# EAGLE library part 4010XLP160 (library XILINX)
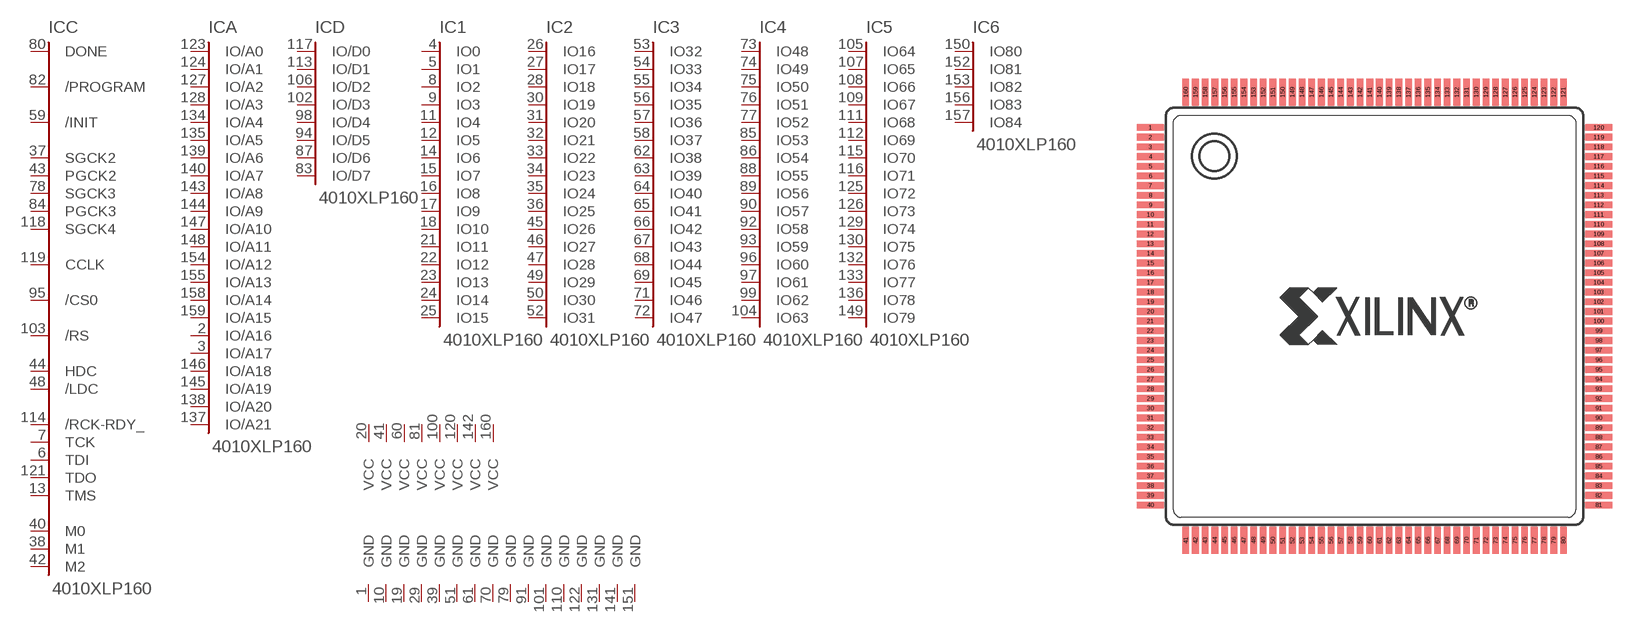
[diagram p33: symbol with the pads of PQ160; footprint PQ160]

Designator prefix IC; gates C=4003-C84 A=XC4-A D=XC4-D 1=XC4-IO16 2=XC4-IO32 3=XC4-IO48 4=XC4-IO64 5=XC4-IO80 V1=VCC V2=VCC V3=VCC V4=VCC V5=VCC V6=VCC V7=VCC V8=VCC G1=GND G2=GND G3=GND G4=GND G5=GND G6=GND G7=GND G8=GND G9=GND G10=GND G11=GND G12=GND G13=GND G14=GND G15=GND G16=GND 6=XC4-IO84

## 4010XLP160  [PQ160]
1  G1:GND  pwr
2  A:IO/A16
3  A:IO/A17
4  1:IO0
5  1:IO1
6  C:TDI
7  C:TCK
8  1:IO2
9  1:IO3
10  G2:GND  pwr
11  1:IO4
12  1:IO5
13  C:TMS
14  1:IO6
15  1:IO7
16  1:IO8
17  1:IO9
18  1:IO10
19  G3:GND  pwr
20  V1:VCC  pwr
21  1:IO11
22  1:IO12
23  1:IO13
24  1:IO14
25  1:IO15
26  2:IO16
27  2:IO17
28  2:IO18
29  G4:GND  pwr
30  2:IO19
31  2:IO20
32  2:IO21
33  2:IO22
34  2:IO23
35  2:IO24
36  2:IO25
37  C:SGCK2
38  C:M1  out
39  G5:GND  pwr
40  C:M0  in
41  V2:VCC  pwr
42  C:M2  in
43  C:PGCK2
44  C:HDC
45  2:IO26
46  2:IO27
47  2:IO28
48  C:/LDC
49  2:IO29
50  2:IO30
51  G6:GND  pwr
52  2:IO31
53  3:IO32
54  3:IO33
55  3:IO34
56  3:IO35
57  3:IO36
58  3:IO37
59  C:/INIT
60  V3:VCC  pwr
61  G7:GND  pwr
62  3:IO38
63  3:IO39
64  3:IO40
65  3:IO41
66  3:IO42
67  3:IO43
68  3:IO44
69  3:IO45
70  G8:GND  pwr
71  3:IO46
72  3:IO47
73  4:IO48
74  4:IO49
75  4:IO50
76  4:IO51
77  4:IO52
78  C:SGCK3
79  G9:GND  pwr
80  C:DONE
81  V4:VCC  pwr
82  C:/PROGRAM
83  D:IO/D7
84  C:PGCK3
85  4:IO53
86  4:IO54
87  D:IO/D6
88  4:IO55
89  4:IO56
90  4:IO57
91  G10:GND  pwr
92  4:IO58
93  4:IO59
94  D:IO/D5
95  C:/CS0
96  4:IO60
97  4:IO61
98  D:IO/D4
99  4:IO62
100  V5:VCC  pwr
101  G11:GND  pwr
102  D:IO/D3
103  C:/RS
104  4:IO63
105  5:IO64
106  D:IO/D2
107  5:IO65
108  5:IO66
109  5:IO67
110  G12:GND  pwr
111  5:IO68
112  5:IO69
113  D:IO/D1
114  C:/RCK-RDY_
115  5:IO70
116  5:IO71
117  D:IO/D0
118  C:SGCK4
119  C:CCLK
120  V6:VCC  pwr
121  C:TDO
122  G13:GND  pwr
123  A:IO/A0
124  A:IO/A1
125  5:IO72
126  5:IO73
127  A:IO/A2
128  A:IO/A3
129  5:IO74
130  5:IO75
131  G14:GND  pwr
132  5:IO76
133  5:IO77
134  A:IO/A4
135  A:IO/A5
136  5:IO78
137  A:IO/A21
138  A:IO/A20
139  A:IO/A6
140  A:IO/A7
141  G15:GND  pwr
142  V7:VCC  pwr
143  A:IO/A8
144  A:IO/A9
145  A:IO/A19
146  A:IO/A18
147  A:IO/A10
148  A:IO/A11
149  5:IO79
150  6:IO80
151  G16:GND  pwr
152  6:IO81
153  6:IO82
154  A:IO/A12
155  A:IO/A13
156  6:IO83
157  6:IO84
158  A:IO/A14
159  A:IO/A15
160  V8:VCC  pwr

## Footprint PQ160 (pad centres in mm)
smd 1.8 x 0.45: 1 -15.05,12.675; 2 -15.05,12.025; 3 -15.05,11.375; 4 -15.05,10.725; 5 -15.05,10.075; 6 -15.05,9.425; 7 -15.05,8.775; 8 -15.05,8.125; 9 -15.05,7.475; 10 -15.05,6.825; 11 -15.05,6.175; 12 -15.05,5.525; 13 -15.05,4.875; 14 -15.05,4.225; 15 -15.05,3.575; 16 -15.05,2.925; 17 -15.05,2.275; 18 -15.05,1.625; 19 -15.05,0.975; 20 -15.05,0.325; 21 -15.05,-0.325; 22 -15.05,-0.975; 23 -15.05,-1.625; 24 -15.05,-2.275; 25 -15.05,-2.925; 26 -15.05,-3.575; 27 -15.05,-4.225; 28 -15.05,-4.875; 29 -15.05,-5.525; 30 -15.05,-6.175; 31 -15.05,-6.825; 32 -15.05,-7.475; 33 -15.05,-8.125; 34 -15.05,-8.775; 35 -15.05,-9.425; 36 -15.05,-10.075; 37 -15.05,-10.725; 38 -15.05,-11.375; 39 -15.05,-12.025; 40 -15.05,-12.675; 81 15.05,-12.675; 82 15.05,-12.025; 83 15.05,-11.375; 84 15.05,-10.725; 85 15.05,-10.075; 86 15.05,-9.425; 87 15.05,-8.775; 88 15.05,-8.125; 89 15.05,-7.475; 90 15.05,-6.825; 91 15.05,-6.175; 92 15.05,-5.525; 93 15.05,-4.875; 94 15.05,-4.225; 95 15.05,-3.575; 96 15.05,-2.925; 97 15.05,-2.275; 98 15.05,-1.625; 99 15.05,-0.975; 100 15.05,-0.325; 101 15.05,0.325; 102 15.05,0.975; 103 15.05,1.625; 104 15.05,2.275; 105 15.05,2.925; 106 15.05,3.575; 107 15.05,4.225; 108 15.05,4.875; 109 15.05,5.525; 110 15.05,6.175; 111 15.05,6.825; 112 15.05,7.475; 113 15.05,8.125; 114 15.05,8.775; 115 15.05,9.425; 116 15.05,10.075; 117 15.05,10.725; 118 15.05,11.375; 119 15.05,12.025; 120 15.05,12.675
smd 0.45 x 1.8: 41 -12.675,-15.05; 42 -12.025,-15.05; 43 -11.375,-15.05; 44 -10.725,-15.05; 45 -10.075,-15.05; 46 -9.425,-15.05; 47 -8.775,-15.05; 48 -8.125,-15.05; 49 -7.475,-15.05; 50 -6.825,-15.05; 51 -6.175,-15.05; 52 -5.525,-15.05; 53 -4.875,-15.05; 54 -4.225,-15.05; 55 -3.575,-15.05; 56 -2.925,-15.05; 57 -2.275,-15.05; 58 -1.625,-15.05; 59 -0.975,-15.05; 60 -0.325,-15.05; 61 0.325,-15.05; 62 0.975,-15.05; 63 1.625,-15.05; 64 2.275,-15.05; 65 2.925,-15.05; 66 3.575,-15.05; 67 4.225,-15.05; 68 4.875,-15.05; 69 5.525,-15.05; 70 6.175,-15.05; 71 6.825,-15.05; 72 7.475,-15.05; 73 8.125,-15.05; 74 8.775,-15.05; 75 9.425,-15.05; 76 10.075,-15.05; 77 10.725,-15.05; 78 11.375,-15.05; 79 12.025,-15.05; 80 12.675,-15.05; 121 12.675,15.05; 122 12.025,15.05; 123 11.375,15.05; 124 10.725,15.05; 125 10.075,15.05; 126 9.425,15.05; 127 8.775,15.05; 128 8.125,15.05; 129 7.475,15.05; 130 6.825,15.05; 131 6.175,15.05; 132 5.525,15.05; 133 4.875,15.05; 134 4.225,15.05; 135 3.575,15.05; 136 2.925,15.05; 137 2.275,15.05; 138 1.625,15.05; 139 0.975,15.05; 140 0.325,15.05; 141 -0.325,15.05; 142 -0.975,15.05; 143 -1.625,15.05; 144 -2.275,15.05; 145 -2.925,15.05; 146 -3.575,15.05; 147 -4.225,15.05; 148 -4.875,15.05; 149 -5.525,15.05; 150 -6.175,15.05; 151 -6.825,15.05; 152 -7.475,15.05; 153 -8.125,15.05; 154 -8.775,15.05; 155 -9.425,15.05; 156 -10.075,15.05; 157 -10.725,15.05; 158 -11.375,15.05; 159 -12.025,15.05; 160 -12.675,15.05